# Altium footprint library pale_sieve.PcbLib: 15 footprints
Each footprint in its own frame and in the unit in brackets; x right, y up, seen from the top. Pads: shape width x height; smd on the part's side, far side on the other; paste and mask are expansions set on the pad; w line width, h text height; cw(c..) or ccw(c..) is an arc to the next point about the centre after c.
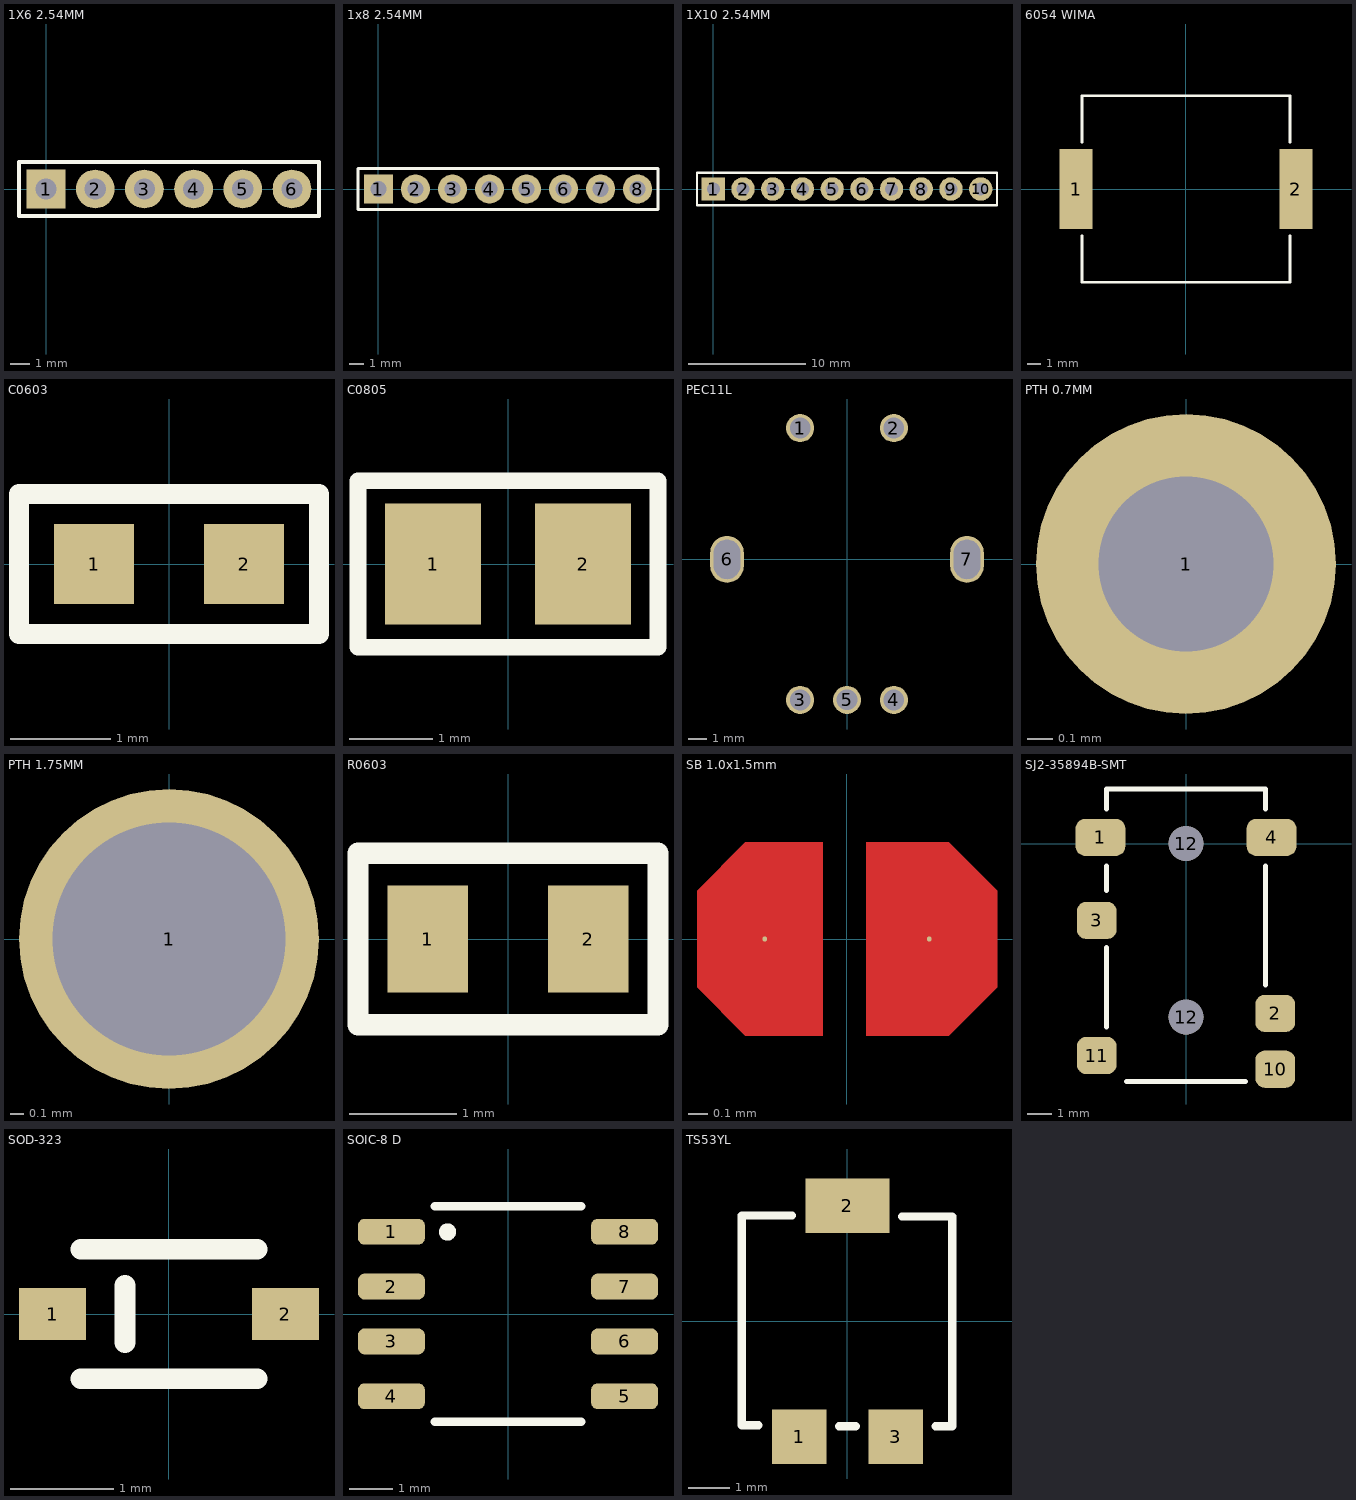
[diagram p0: the footprints below, top view; thin cyan lines are the x and y axes]

## 1X6 2.54MM [mm]
pads (6):
  rect 2x2 hole 1.1: 1(0,0)
  round 2 hole 1.1: 2(2.54,0) 3(5.08,0) 4(7.62,0) 5(10.16,0) 6(12.7,0)
Top Overlay:
  lines w0.2: -1.397,-1.397 14.097,-1.397 14.097,1.397 -1.397,1.397 -1.397,-1.397
3D body "61300611121.stp": height 8.69, standoff -3.2, extent -1.27,-1.27 13.97,1.27

## 1x8 2.54MM [mm]
pads (8):
  rect 2x2 hole 1.1: 1(0,0)
  round 2 hole 1.1: 2(2.54,0) 3(5.08,0) 4(7.62,0) 5(10.16,0) 6(12.7,0) 7(15.24,0) 8(17.78,0)
Top Overlay:
  lines w0.2: -1.397,-1.397 19.177,-1.397 19.177,1.397 -1.397,1.397 -1.397,-1.397
3D body "61300811121.stp": height 8.54, standoff -3, extent -1.27,-1.27 19.05,1.27

## 1X10 2.54MM [mm]
pads (10):
  rect 2x2 hole 1.1: 1(0,0)
  round 2 hole 1.1: 2(2.54,0) 3(5.08,0) 4(7.62,0) 5(10.16,0) 6(12.7,0) 7(15.24,0) 8(17.78,0) 9(20.32,0) 10(22.86,0)
Top Overlay:
  lines w0.2: -1.397,-1.397 -1.397,1.397 24.257,1.397 24.257,-1.397 -1.397,-1.397
3D body "61301011121.stp": height 8.54, standoff -3, extent -1.27,-1.27 24.13,1.27

## 6054 WIMA [mm]
pads (2):
  rect 2.5x6 smd: 1(-8.25,0) 2(8.25,0)
Top Overlay:
  lines w0.2: -7.8,-3.5 -7.8,-7 7.8,-7 7.8,-3.5 ; -7.8,3.5 -7.8,7 7.8,7 7.8,3.5
3D body "SMDTD04470YA00KS00.stp": height 7.4, standoff 0, extent -9.25,-6.85 9.25,6.85

## C0603 [mm]
pads (2):
  rect 0.8x0.8 smd: 1(-0.75,0) 2(0.75,0)
Top Overlay:
  lines w0.2: -1.5,-0.7 -1.5,0.7 1.5,0.7 1.5,-0.7 -1.5,-0.7
3D body "GCM188R71C104KA37J.stp": height 0.9, standoff 0, extent -0.8,-0.4 0.8,0.4

## C0805 [mm]
pads (2):
  rect 1.15x1.45 smd: 1(-0.9,0) 2(0.9,0)
Top Overlay:
  lines w0.2: -1.8,-1 1.8,-1 1.8,1 -1.8,1 -1.8,-1
3D body "C0805C473G3GECAUTO.stp": height 1.4, standoff 0, extent -1.1,-0.725 1.1,0.725

## PEC11L [mm]
pads (7):
  round 1.5 hole 1.1: 1(-2.5,7) 2(2.5,7) 3(-2.5,-7.5) 4(2.5,-7.5) 5(0,-7.5)
  oval 1.8x2.5 hole 1.4 slot 2.1 at 90 deg: 6(-6.4,0) 7(6.4,0)
3D body "PEC11L-4120F-S0020.stp": height 24.6, standoff -4.41, extent -6.922,-7.6 6.922,7.1

## PTH 0.7MM [mm]
pads (1):
  round 1.2 hole 0.7: 1(0,0)

## PTH 1.75MM [mm]
pads (1):
  round 2.25 hole 1.75: 1(0,0)
3D body: height 1, standoff -9, extent -0.875,-0.925 0.875,0.825

## R0603 [mm]
pads (2):
  rect 0.75x1 smd: 1(-0.75,0) 2(0.75,0)
Top Overlay:
  lines w0.2: -1.4,-0.8 1.4,-0.8 1.4,0.8 -1.4,0.8 -1.4,-0.8
3D body "CRCW060347K0FKEA.stp": height 0.45, standoff 0, extent -0.775,-0.425 0.775,0.425

## SB 1.0x1.5mm [mil]
pads (2):
  round 1 smd: 1(-16.73,0) 2(16.73,0)
Top Layer:
  region: -4.92,19.69 -20.67,19.69 -30.51,9.84 -30.51,-9.84 -20.67,-19.68 -4.92,-19.68
  region: 3.94,-19.68 20.67,-19.68 30.51,-9.84 30.51,9.84 20.67,19.68 3.94,19.68

## SJ2-35894B-SMT [mm]
pads (8):
  rrect50% 2x1.5 smd: 1(-3.45,0.25) 4(3.45,0.25)
  rrect50% 1.6x1.5 smd: 2(3.6,-6.85) 3(-3.6,-3.1) 10(3.6,-9.1) 11(-3.6,-8.55)
  round 1.4 hole 1.4 unplated mask+0.102: 12(0,-7) 12(0,0)
Top Overlay:
  lines w0.2: -3.2,-7.4 -3.2,-4.2 ; -3.2,-1.9 -3.2,-0.9 ; -3.2,1.4 -3.2,2.2 -2.7,2.2 2.7,2.2 3.2,2.2 3.2,1.4 ; -2.4,-9.6 2.4,-9.6 ; 3.2,-5.7 3.2,-0.9
3D body "SJ2-35894B-SMT-TR.stp": height 4.75, standoff -0.65, extent -4.2,-9.6 4.2,4.4

## SOD-323 [mm]
pads (2):
  rect 0.65x0.5 smd: 1(-1.125,0) 2(1.125,0)
Top Overlay:
  lines w0.2: -0.85,-0.625 0.85,-0.625 ; -0.85,0.625 0.85,0.625 ; -0.425,-0.275 -0.425,0.275
3D body "1N4148WS.stp": height 0.9, standoff 0, extent -1.25,-0.625 1.25,0.625

## SOIC-8 D [mm]
pads (8):
  rrect50% 1.55x0.6 smd: 1(-2.7,1.905) 2(-2.7,0.635) 3(-2.7,-0.635) 4(-2.7,-1.905) 5(2.7,-1.905) 6(2.7,-0.635) 7(2.7,0.635) 8(2.7,1.905)
Top Overlay:
  circle w0.2: c-1.4,1.9 r0.1
  lines w0.2: -1.7,-2.5 1.7,-2.5 ; -1.7,2.5 1.7,2.5
3D body "OPA2323IDR.stp": height 1.75, standoff 0, extent -3,-2.45 3,2.45

## TS53YL [mm]
pads (3):
  rect 1.3x1.3 smd: 1(-1.15,-2.75) 3(1.15,-2.75)
  rect 2x1.3 smd: 2(0,2.75)
Top Overlay:
  lines w0.2: -2.121,-2.478 -2.521,-2.478 -2.521,2.522 -1.321,2.522 ; -0.2,-2.5 0.2,-2.5 ; 1.3,2.5 2.5,2.5 2.5,-2.5 2.1,-2.5
3D body "TS53YL502MR10.stp": height 2.6, standoff 0, extent -2.5,-3.25 2.5,3.25